# Altium footprint library SSP-T6.PcbLib: 1 footprints
Each footprint in its own frame and in the unit in brackets; x right, y up, seen from the top. Pads: shape width x height; smd on the part's side, far side on the other; paste and mask are expansions set on the pad; w line width, h text height; cw(c..) or ccw(c..) is an arc to the next point about the centre after c.
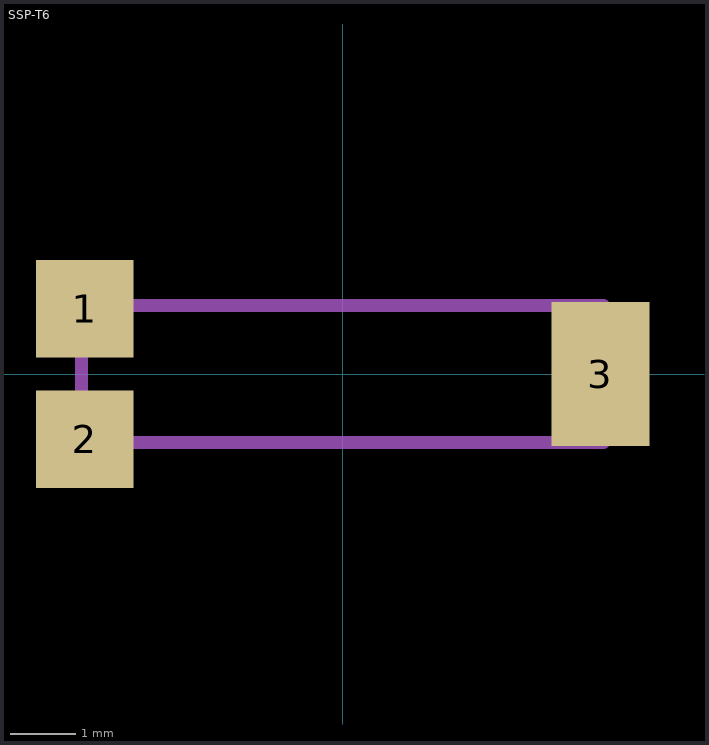
[diagram p0: the footprint, top view; thin cyan lines are the x and y axes]

## SSP-T6 [mm]
pads (3):
  rect 1.5x1.5 smd: 1(-3.95,1) 2(-3.95,-1)
  rect 1.5x2.2 smd: 3(3.95,0)
Mechanical 13:
  lines w0.2: -4,-1.05 -4,1.05 4,1.05 4,-1.05 -4,-1.05
  text ".Designator" at -2.794,-0.889 h2.5
3D body: height 1.6, standoff 0, extent -3.999,-1.049 3.999,1.049